# Altium footprint library rcl.PCBLIB: 489 footprints (part 11 of 31)
Each footprint in its own frame and in the unit in brackets; x right, y up, seen from the top. Pads: shape width x height; smd on the part's side, far side on the other; paste and mask are expansions set on the pad; w line width, h text height; cw(c..) or ccw(c..) is an arc to the next point about the centre after c.
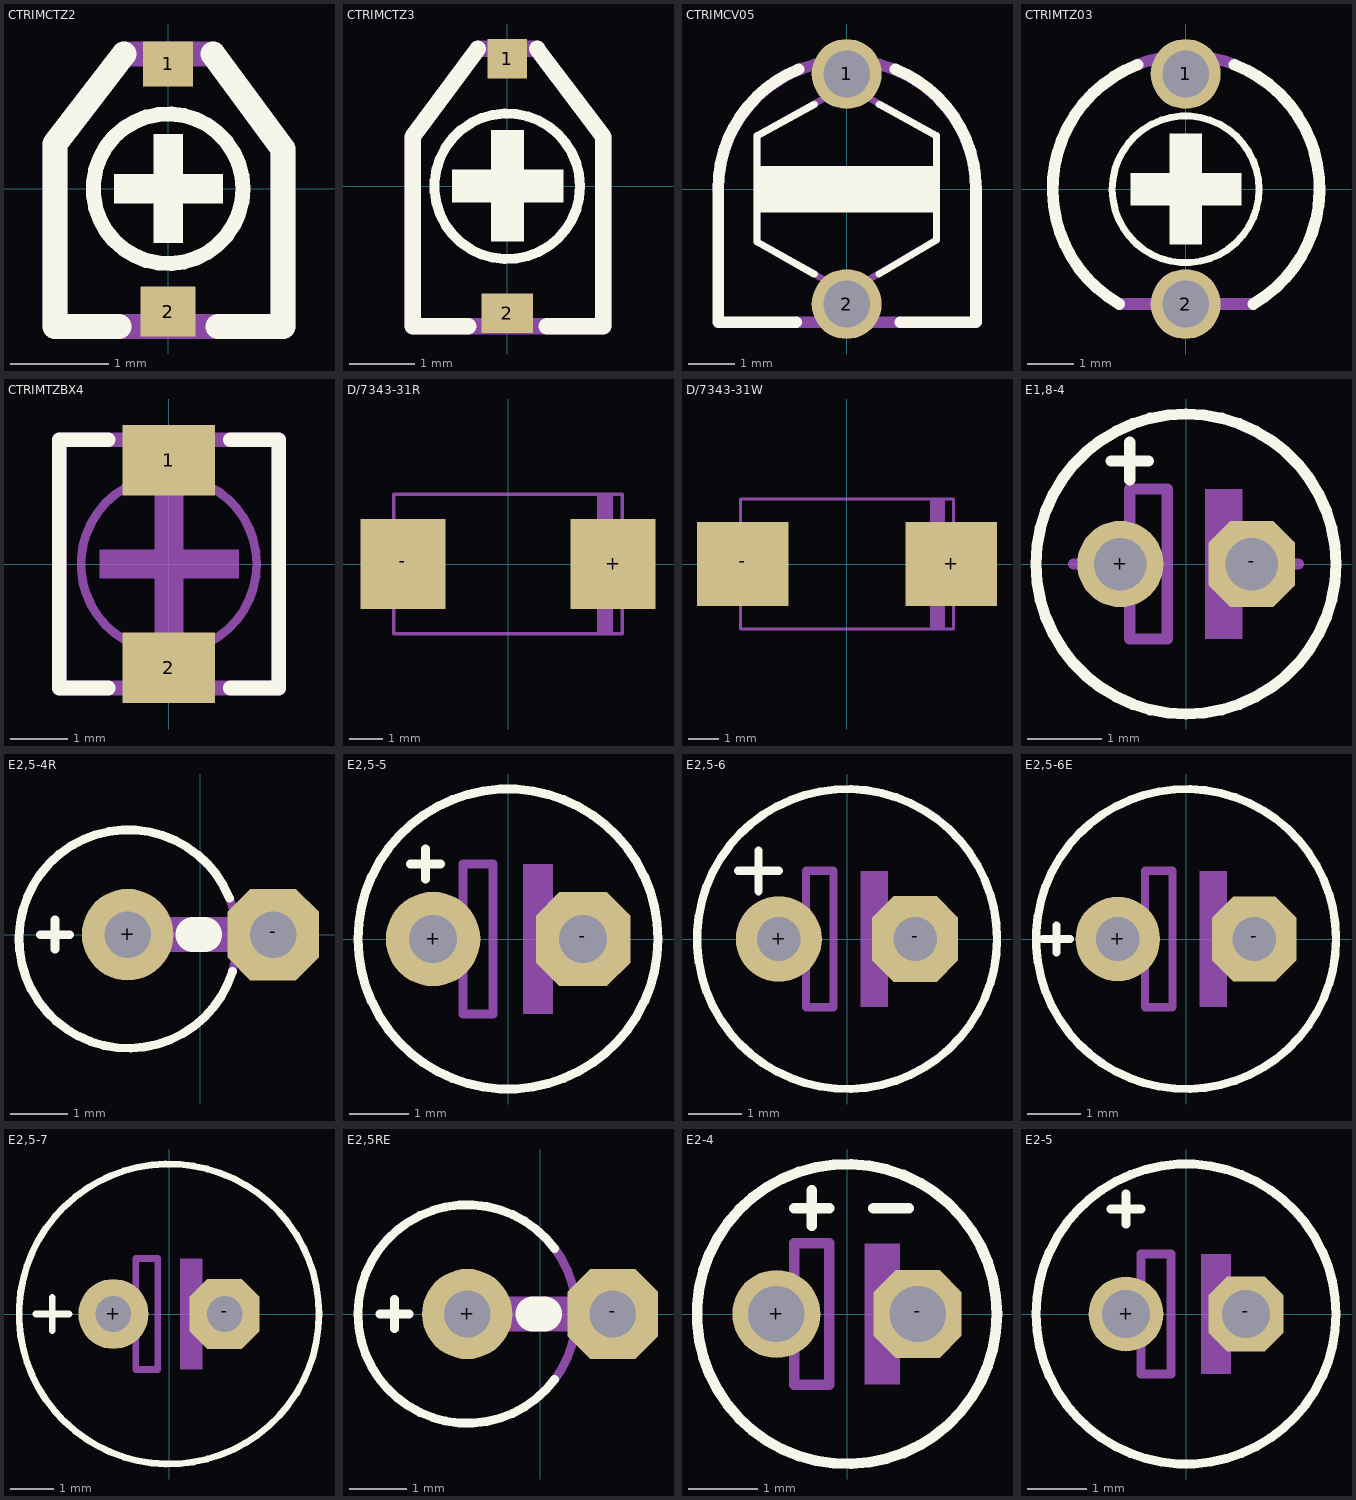
[diagram p10: the footprints below, top view; thin cyan lines are the x and y axes]

## CTRIMCTZ2 [mil]
pads (2):
  rect 20x18 smd: 1(0,50)
  rect 22x20 smd: 2(0,-49.21)
Top Overlay:
  circle w6: c0,0 r30
  rectangle: -5.91,-21.65 6,22
  rectangle: -21.65,-5.91 22,6
  lines w10: -19.68,-55.12 -45.28,-55.12 -45.28,18 -17.72,54 ; 18,54 46,16 46,-55.12 20,-55.12
Mechanical 16:
  lines w10: -45.28,-55.12 -45.28,18 -17.72,54 18,54 46,16 46,-55.12 -45.28,-55.12

## CTRIMCTZ3 [mil]
pads (2):
  rect 24x24 smd: 1(0,77)
  rect 31x24 smd: 2(0,-76.77)
Top Overlay:
  circle w6: c0,0 r44
  rectangle: -9.84,-33.46 10,34
  rectangle: -33.46,-9.84 34,10
  lines w10: -23.62,-84.65 -57.09,-84.65 -57.09,30 -17.72,83 ; 18,83 58,30 58,-84.65 24,-84.65
Mechanical 16:
  lines w10: -57.09,-84.65 -57.09,30 -17.72,83 18,83 58,30 58,-84.65 -57.09,-84.65

## CTRIMCV05 [mil]
pads (2):
  round 60 hole 40: 1(0,99) 2(0,-98.43)
Top Overlay:
  rectangle: -74.8,-19.68 77,20
  lines w6: -27.56,-72.83 -76.77,-45.28 -76.77,46 -27.56,73 ; 28,-72.83 77,-43.31 77,46 28,73
  lines w10: -43.31,-114.17 -110.24,-114.17 -110.24,0 cw(c0.47,0.49) -41.34,103 ; 42,103 cw(c0.24,0.41) 111,0 111,-114.17 46,-114.17
Mechanical 16:
  lines w6: -76.77,-45.28 -76.77,46 0,89 77,46 77,-43.31 0,-88.58 -76.77,-45.28
  lines w10: -110.24,0 cw(c0.38,0) 111,0 ; -43.31,-114.17 46,-114.17

## CTRIMTZ03 [mil]
pads (2):
  round 60 hole 40: 1(0,99) 2(0,-98.43)
Top Overlay:
  circle w6: c0,0 r63
  rectangle: -13.78,-47.24 14,48
  rectangle: -47.24,-13.78 48,14
  lines w10: -57.09,-98.43 cw(c0.17,0.5) -41.34,107 ; 42,107 cw(c0.62,0.44) 58,-98.43
Mechanical 16:
  lines w10: -57.09,-98.43 58,-98.43 ; -41.34,107 cw(c0.33,-0.15) 42,107

## CTRIMTZBX4 [mil]
pads (2):
  rect 63x48 smd: 1(0,71) 2(0,-70.87)
Top Overlay:
  lines w10: -41.34,-84.65 -74.8,-84.65 -74.8,85 -41.34,85 ; 42,-84.65 75,-84.65 75,85 42,85
Mechanical 16:
  circle w6: c0,0 r60
  rectangle: -9.84,-47.24 10,48
  rectangle: -47.24,-9.84 48,10
  lines w10: -74.8,-84.65 -74.8,85 75,85 75,-84.65 -74.8,-84.65

## D/7343-31R [mil]
pads (2):
  rect 101x107 smd: +(125,0) -(-125,0)
Mechanical 16:
  rectangle: -143.7,-47.24 -137.8,48
  rectangle: 138,-47.24 144,48
  rectangle: 106,-83.66 125,84
  lines w4: -135.83,-82.68 136,-82.68 136,83 -135.83,83 -135.83,-82.68

## D/7343-31W [mil]
pads (2):
  rect 117x107 smd: +(133,0) -(-132.87,0)
Mechanical 16:
  rectangle: -143.7,-47.24 -137.8,48
  rectangle: 138,-47.24 144,48
  rectangle: 106,-83.66 125,84
  lines w4: -135.83,-82.68 136,-82.68 136,83 -135.83,83 -135.83,-82.68

## E1,8-4 [mil]
pads (2):
  round 46 hole 28: +(-35,0)
  oct 46x46 hole 28: -(35,0)
Top Overlay:
  circle w6: c0,0 r80
  lines w6: -40,55 -20,55 ; -30,45 -30,65
Mechanical 16:
  rectangle: 10,-40 30,40
  lines w6: -60,0 -30,0 ; 25,0 60,0 ; -30,0 -30,-40 -10,-40 -10,40 -30,40 -30,0

## E2,5-4R [mil]
pads (2):
  round 63 hole 32: +(-50,0)
  oct 63x63 hole 32: -(50,0)
Top Overlay:
  lines w6: -110,0 -90,0 ; -100,-10 -100,10 ; 20,25 ccw(c-49.64,-3.01) 22,-25.42
  lines w24: -5,0 3,0
Mechanical 16:
  lines w6: 20,25 cw(c-49.64,-3.01) 22,-25.42
  lines w24: -50,0 50,0

## E2,5-5 [mil]
pads (2):
  round 63 hole 32: +(-50,0)
  oct 63x63 hole 32: -(50,0)
Top Overlay:
  circle w6: c0,0 r100
  lines w6: -65,50 -55,50 ; -55,40 -55,50 ; -55,60 -55,50 ; -45,50 -55,50
Mechanical 16:
  rectangle: 10,-50 30,50
  lines w6: -65,0 -30,0 ; 25,0 65,0 ; -30,0 -30,-50 -10,-50 -10,50 -30,50 -30,0

## E2,5-6 [mil]
pads (2):
  round 63 hole 32: +(-50,0)
  oct 63x63 hole 32: -(50,0)
Top Overlay:
  circle w6: c0,0 r110
  lines w6: -80,50 -65,50 ; -65,35 -65,50 ; -65,65 -65,50 ; -50,50 -65,50
Mechanical 16:
  rectangle: 10,-50 30,50
  lines w6: -65,0 -30,0 ; 25,0 65,0 ; -30,0 -30,-50 -10,-50 -10,50 -30,50 -30,0

## E2,5-6E [mil]
pads (2):
  round 62 hole 32: +(-50,0)
  oct 62x62 hole 32: -(50,0)
Top Overlay:
  circle w6: c0,0 r110
  lines w6: -105,0 -85,0 ; -95,-10 -95,10
Mechanical 16:
  rectangle: 10,-50 30,50
  lines w6: -65,0 -30,0 ; 25,0 65,0 ; -30,0 -30,-50 -10,-50 -10,50 -30,50 -30,0

## E2,5-7 [mil]
pads (2):
  round 63 hole 32: +(-50,0)
  oct 63x63 hole 32: -(50,0)
Top Overlay:
  circle w6: c0,0 r135
  lines w6: -120,0 -90,0 ; -105,-15 -105,15
Mechanical 16:
  rectangle: 10,-50 30,50
  lines w6: -65,0 -30,0 ; 25,0 65,0 ; -30,0 -30,-50 -10,-50 -10,50 -30,50 -30,0

## E2,5RE [mil]
pads (2):
  round 62 hole 32: +(-50,0)
  oct 62x62 hole 32: -(50,0)
Top Overlay:
  lines w6: -110,0 -90,0 ; -100,-10 -100,10 ; 10,-45 cw(c-50,0) 10,45
  lines w24: -5,0 3,0
Mechanical 16:
  lines w6: 10,-45 ccw(c-50,0) 10,45
  lines w24: -50,0 50,0

## E2-4 [mil]
pads (2):
  round 50 hole 32: +(-40,0)
  oct 50x50 hole 32: -(40,0)
Top Overlay:
  circle w6: c0,0 r85
  lines w6: -30,60 -10,60 ; -20,50 -20,70 ; 15,60 35,60
Mechanical 16:
  rectangle: 10,-40 30,40
  lines w6: -60,0 -30,0 ; 25,0 60,0 ; -30,0 -30,-40 -10,-40 -10,40 -30,40 -30,0

## E2-5 [mil]
pads (2):
  round 50 hole 32: +(-40,0)
  oct 50x50 hole 32: -(40,0)
Top Overlay:
  circle w6: c0,0 r100
  lines w6: -50,70 -30,70 ; -40,60 -40,80
Mechanical 16:
  rectangle: 10,-40 30,40
  lines w6: -60,0 -30,0 ; 25,0 60,0 ; -30,0 -30,-40 -10,-40 -10,40 -30,40 -30,0